# EAGLE library part TPS2511 (library myLib)
TPS2511 Usb dedicated charging port controller and current limit switch.
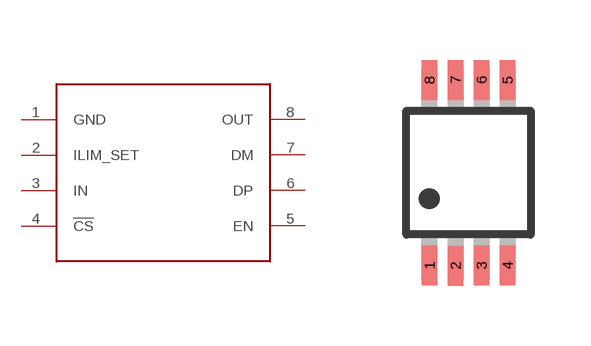
[diagram p8: symbol with the pads of MSOP-8; footprint MSOP-8]

Designator prefix -

## TPS2511  [MSOP-8]
1  GND
2  ILIM_SET
3  IN
4  !CS
5  EN
6  DP
7  DM
8  OUT

## Footprint MSOP-8 (pad centres in mm)
smd 0.38 x 1: 1 -0.975,-2.32; 2 -0.325,-2.33; 3 0.325,-2.32; 4 0.975,-2.32; 5 0.975,2.32; 6 0.325,2.32; 7 -0.325,2.32; 8 -0.975,2.32